# Altium schematic symbol library Schlib1.SchLib: 1 symbol
Pins are listed as number, name and electrical type; pins without a type are passive.

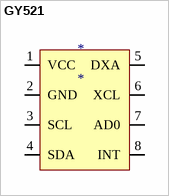
[diagram p0: symbol GY521]

## GY521
designator *
footprint 1x8
pins: 1 VCC, 2 GND, 3 SCL, 4 SDA, 5 DXA, 6 XCL, 7 AD0, 8 INT